# Altium footprint library PcbLib1.PcbLib: 58 footprints (part 2 of 4)
Each footprint in its own frame and in the unit in brackets; x right, y up, seen from the top. Pads: shape width x height; smd on the part's side, far side on the other; paste and mask are expansions set on the pad; w line width, h text height; cw(c..) or ccw(c..) is an arc to the next point about the centre after c.
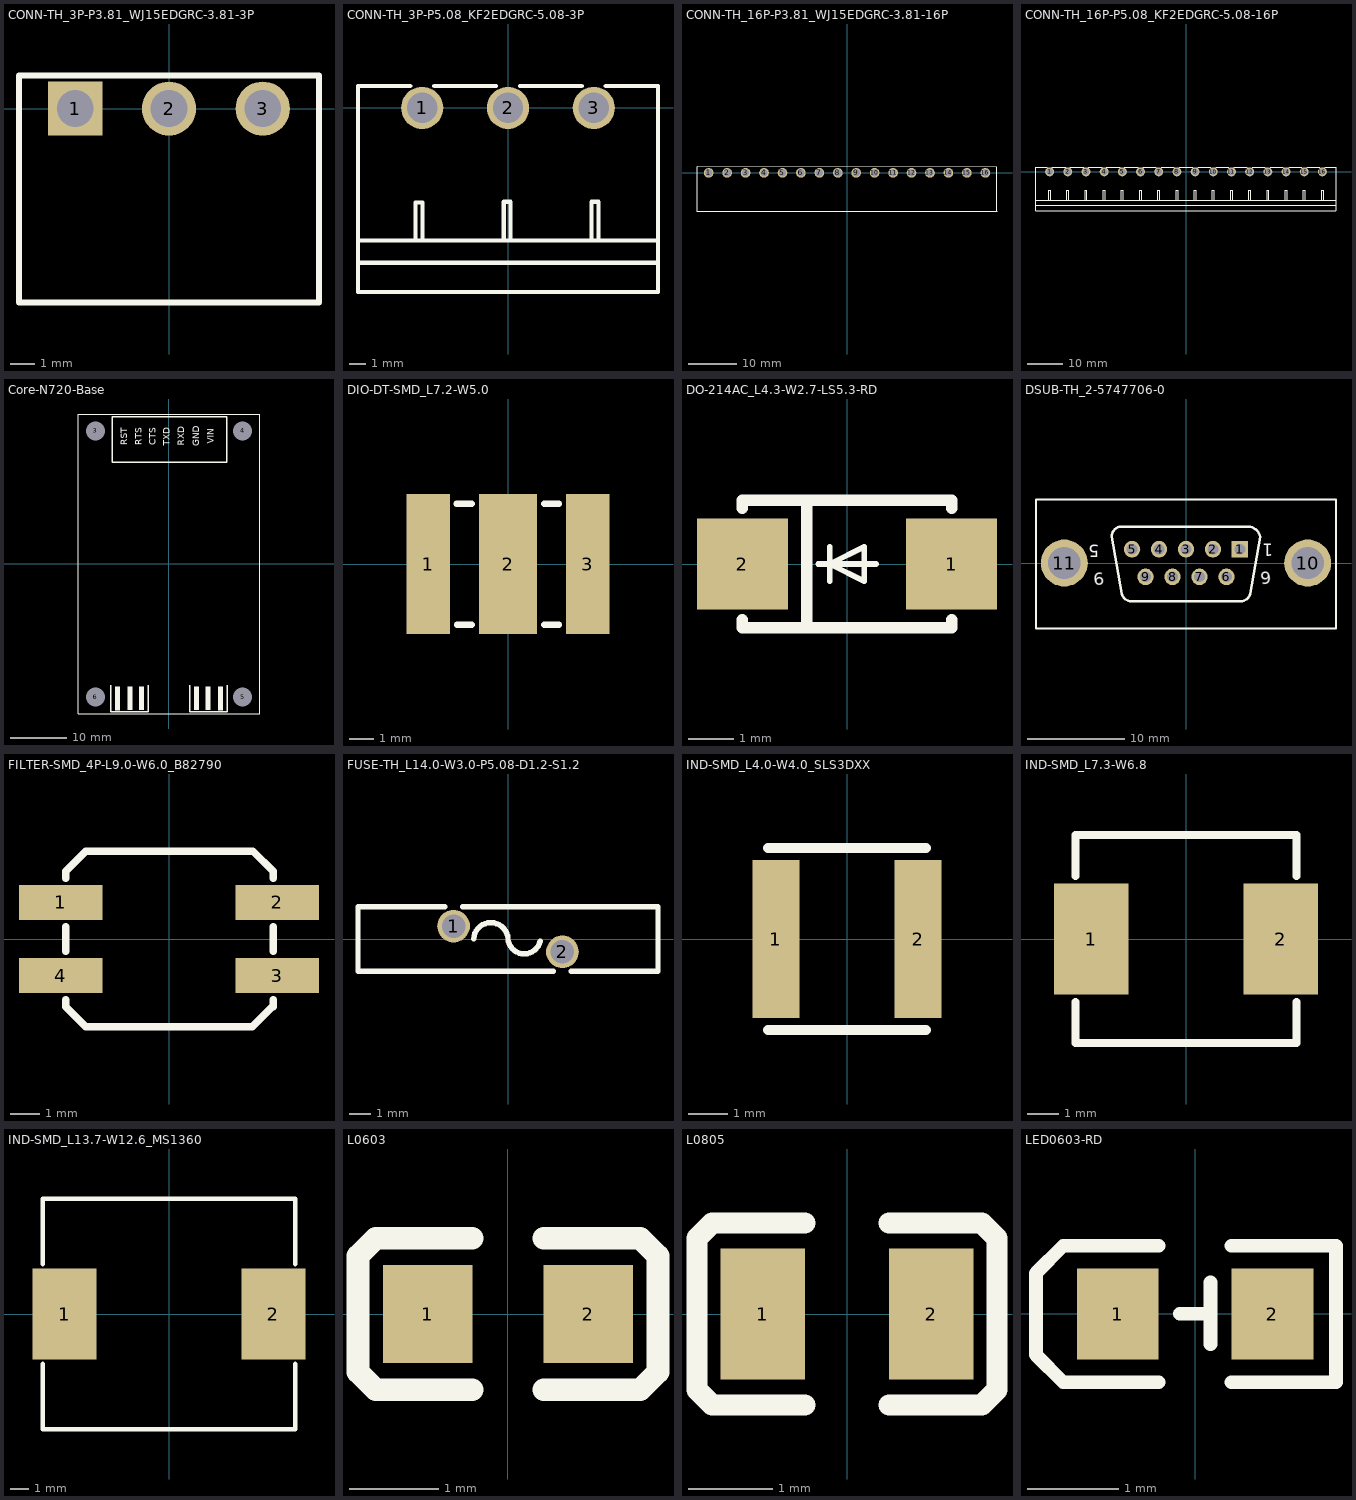
[diagram p1: the footprints below, top view; thin cyan lines are the x and y axes]

## CONN-TH_3P-P3.81_WJ15EDGRC-3.81-3P [mm]
pads (3):
  rect 2.2x2.2 hole 1.5: 1(-3.81,0)
  round 2.2 hole 1.5: 2(0,0) 3(3.81,0)
Top Overlay:
  lines w0.254: -6.096,-7.88 -6.096,1.27 ; -6.096,-7.874 6.096,-7.874 6.096,1.27 ; -6.096,1.35 6.096,1.35

## CONN-TH_3P-P5.08_KF2EDGRC-5.08-3P [mm]
pads (3):
  round 2.5 hole 1.8: 1(-5.08,0) 2(0,0) 3(5.08,0)
Top Overlay:
  lines w0.254: -8.88,-9.17 8.88,-9.17 ; -8.88,-7.85 8.88,-7.85 ; -5.787,1.3 -8.88,1.3 -8.88,-10.9 8.88,-10.9 8.88,1.3 5.787,1.3 ; -5.473,-7.85 -5.473,-5.6 -5.06,-5.6 -5.06,-7.85 ; -4.373,1.3 -0.707,1.3 ; -0.26,-7.8 -0.26,-5.551 0.153,-5.551 0.153,-7.8 ; 0.707,1.3 4.373,1.3 ; 4.94,-7.8 4.94,-5.551 5.353,-5.551 5.353,-7.8

## CONN-TH_16P-P3.81_WJ15EDGRC-3.81-16P [mm]
pads (16):
  round 2 hole 1.5: 1(-28.575,0) 2(-24.765,0) 3(-20.955,0) 4(-17.145,0) 5(-13.335,0) 6(-9.525,0) 7(-5.715,0) 8(-1.905,0) 9(1.905,0) 10(5.715,0) 11(9.525,0) 12(13.335,0) 13(17.145,0) 14(20.955,0) 15(24.765,0) 16(28.575,0)
Top Overlay:
  lines w0.254: -31,-8 -31,1.3 31,1.3 31,-8 -31,-8

## CONN-TH_16P-P5.08_KF2EDGRC-5.08-16P [mm]
pads (16):
  round 2.5 hole 1.8: 1(-38.1,0) 2(-33.02,0) 3(-27.94,0) 4(-22.86,0) 5(-17.78,0) 6(-12.7,0) 7(-7.62,0) 8(-2.54,0) 9(2.54,0) 10(7.62,0) 11(12.7,0) 12(17.78,0) 13(22.86,0) 14(27.94,0) 15(33.02,0) 16(38.1,0)
Top Overlay:
  lines w0.254: -41.9,-9.273 41.9,-9.273 ; -41.9,-8.011 41.9,-8.011 ; -38.695,1.3 -41.9,1.3 -41.9,-10.9 41.9,-10.9 41.9,1.3 38.807,1.3 ; -38.378,-8.011 -38.378,-5.207 -37.846,-5.207 -37.846,-8.011 ; -37.505,1.3 -33.615,1.3 ; -33.274,-8.001 -33.274,-5.197 -32.742,-5.197 -32.742,-8.001 ; -32.425,1.3 -28.535,1.3 ; -28.194,-8.001 -28.194,-5.197 -27.662,-5.197 -27.662,-8.001 ; -27.345,1.3 -23.455,1.3 ; -23.09,-7.991 -23.09,-5.187 -22.558,-5.187 -22.558,-7.991 ; -22.265,1.3 -18.375,1.3 ; -18.034,-8.001 -18.034,-5.197 -17.502,-5.197 -17.502,-8.001 ; -17.185,1.3 -13.295,1.3 ; -12.93,-7.991 -12.93,-5.187 -12.398,-5.187 -12.398,-7.991 ; -12.105,1.3 -8.9,1.3 ; -9.078,1.3 -8.327,1.3 ; -7.85,-7.991 -7.85,-5.187 -7.318,-5.187 -7.318,-7.991 ; -6.913,1.3 -3.247,1.3 ; -2.746,-7.981 -2.746,-5.177 -2.215,-5.177 -2.215,-7.981 ; -1.833,1.3 1.833,1.3 ; 2.286,-8.001 2.286,-5.197 2.818,-5.197 2.818,-8.001 ; 3.247,1.3 6.913,1.3 ; 7.39,-7.991 7.39,-5.187 7.922,-5.187 7.922,-7.991 ; 8.327,1.3 11.993,1.3 ; 12.47,-7.991 12.47,-5.187 13.002,-5.187 13.002,-7.991 ; 13.407,1.3 17.073,1.3 ; 17.574,-7.981 17.574,-5.177 18.105,-5.177 18.105,-7.981 ; 18.487,1.3 22.153,1.3 ; 22.63,-7.991 22.63,-5.187 23.162,-5.187 23.162,-7.991 ; 23.567,1.3 27.233,1.3 ; 27.734,-7.981 27.734,-5.177 28.265,-5.177 28.265,-7.981 ; 28.647,1.3 32.313,1.3 ; 32.814,-7.981 32.814,-5.177 33.345,-5.177 33.345,-7.981 ; 33.727,1.3 37.393,1.3 ; 37.917,-7.971 37.917,-5.167 38.449,-5.167 38.449,-7.971

## Core-N720-Base [mm]
pads (4):
  round 1.524 hole 3.4: 3(-13,23.5) 4(13,23.5) 5(13,-23.5) 6(-13,-23.5)
Top Overlay:
  region: 5.332,-21.626 4.443,-21.626 4.443,-25.817 5.332,-25.817
  region: 7.364,-21.626 6.475,-21.626 6.475,-25.817 7.364,-25.817
  region: 9.523,-21.674 8.634,-21.674 8.634,-25.865 9.523,-25.865
  rectangle: -5.332,-25.817 -4.443,-21.626
  rectangle: -7.364,-25.817 -6.475,-21.626
  rectangle: -9.523,-25.865 -8.634,-21.674
  lines w0.203: -16,-26.5 -16,26.5 16,26.5 16,-26.5 -16,-26.5
  lines w0.254: -10.285,-21.42 -10.285,-26.119 -3.681,-26.119 -3.681,-21.42 ; 3.681,-21.42 3.681,-26.119 10.285,-26.119 10.285,-21.42 ; -10.033,17.991 10.16,17.991 10.16,25.992 -10.033,25.992 -10.033,17.991
  text "RST" at -6.955,20.985 h2
  text "RTS" at -4.415,20.979 h2
  text "CTS" at -1.875,20.956 h2
  text "TXD" at 0.562,20.935 h2
  text "RXD" at 3.102,20.88 h2
  text "GND" at 5.745,20.758 h2
  text "VIN" at 8.309,21.239 h2

## DIO-DT-SMD_L7.2-W5.0 [mm]
pads (3):
  rect 1.8x5.8 smd: 1(-3.3,0) 3(3.3,0)
  rect 2.4x5.8 smd: 2(0,0)
Top Overlay:
  lines w0.254: -2.13,2.49 -1.5,2.49 ; -2.115,-2.51 -1.5,-2.51 ; 1.5,-2.51 2.105,-2.51 ; 1.5,2.49 2.115,2.49
Mechanical 15:
  lines w0.254: -3.6,-2.51 -3.6,2.49 ; 3.6,-2.51 3.6,2.49

## DO-214AC_L4.3-W2.7-LS5.3-RD [mm]
pads (2):
  rect 2x2 smd: 1(2.3,0) 2(-2.3,0)
Top Overlay:
  lines w0.127: -0.635,0 0.635,0 ; -0.381,-0.381 -0.381,0 ; -0.381,0.381 -0.381,0 ; -0.381,0 0.381,-0.381 0.381,0 0.381,0.381 -0.381,0
  lines w0.254: -2.3,-1.231 -2.3,-1.4 2.3,-1.4 2.3,-1.231 ; -2.3,1.231 -2.3,1.4 2.3,1.4 2.3,1.231 ; -0.889,-1.4 -0.889,1.4

## DSUB-TH_2-5747706-0 [mm]
pads (11):
  rect 1.69x1.69 hole 1.09: 1(5.54,1.42)
  round 1.69 hole 1.09: 2(2.77,1.42) 3(0,1.42) 4(-2.77,1.42) 5(-5.54,1.42) 6(4.155,-1.42) 7(1.385,-1.42) 8(-1.385,-1.42) 9(-4.155,-1.42)
  round 4.826 hole 3.302: 10(12.495,0) 11(-12.495,0)
Top Overlay:
  lines w0.2: -15.4,-6.703 15.4,-6.703 15.4,2.9 15.4,6.505 -15.4,6.505 -15.4,-6.703
  lines w0.254: -7.622,2.695 cw(c-6.603,2.724) -6.86,3.711 6.602,3.711 cw(c6.365,2.459) 7.618,2.695 6.602,-3.147 cw(c5.615,-2.889) 5.586,-3.909 -5.59,-3.909 cw(c-5.62,-2.889) -6.606,-3.147 -7.623,2.695
  text "1" at 8.941,1.956 h1.27
  text "6" at 8.705,-0.855 h1.27
  text "9" at -8.439,-0.921 h1.27
  text "5" at -8.892,1.875 h1.27

## FILTER-SMD_4P-L9.0-W6.0_B82790 [mm]
pads (4):
  rect 2.85x1.2 smd: 1(-3.7,1.25) 2(3.7,1.25) 3(3.7,-1.25) 4(-3.7,-1.25)
Top Overlay:
  lines w0.254: -3.531,-2.081 -3.531,-2.311 -2.845,-2.997 ; -3.531,-0.419 -3.531,0.419 ; -3.531,2.081 -3.531,2.312 -2.845,2.997 ; -2.819,-2.997 2.845,-2.997 3.531,-2.311 ; -2.819,3 2.87,3 ; 2.87,2.997 3.556,2.312 3.556,2.081 ; 3.556,-2.311 3.556,-2.081 ; 3.556,-0.419 3.556,0.419

## FUSE-TH_L14.0-W3.0-P5.08-D1.2-S1.2 [mil]
pads (2):
  round 60 hole 43.31: 1(-100,23.63) 2(100,-23.62)
Top Overlay:
  lines w10: -116.39,59.05 -275.59,59.05 -275.59,-59.05 83.61,-59.05 ; -83.61,59.05 275.59,59.05 275.59,-59.05 116.39,-59.05 ; -62.99,0 cw(c-31.48,-1.47) 0,0.51 ccw(c29.85,2.55) 59.05,-3.94

## IND-SMD_L4.0-W4.0_SLS3DXX [mm]
pads (2):
  rect 1.2x4 smd: 1(-1.8,0) 2(1.8,0)
Top Overlay:
  lines w0.254: -2,-2.3 2,-2.3 ; -2,2.3 2,2.3

## IND-SMD_L7.3-W6.8 [mm]
pads (2):
  rect 2.35x3.5 smd: 1(-3,0) 2(3,0)
Top Overlay:
  lines w0.254: -3.5,-2 -3.5,-3.3 3.5,-3.3 3.5,-2 ; -3.5,2 -3.5,3.3 3.5,3.3 3.5,2

## IND-SMD_L13.7-W12.6_MS1360 [mm]
pads (2):
  rect 3.5x5 smd: 1(-5.7,0) 2(5.7,0)
Top Overlay:
  lines w0.254: -6.9,-2.731 -6.9,-6.3 6.9,-6.3 6.9,-2.731 ; -6.9,2.731 -6.9,6.3 6.9,6.3 6.9,2.731

## L0603 [mm]
pads (2):
  rect 1x1.1 smd: 1(-0.9,0) 2(0.9,0)
Top Overlay:
  lines w0.254: -0.4,-0.85 -1.48,-0.85 -1.68,-0.65 -1.68,-0.62 -1.68,0.62 -1.68,0.65 -1.48,0.85 -0.4,0.85 ; 0.4,-0.85 1.48,-0.85 1.68,-0.65 1.68,-0.62 1.68,0.62 1.68,0.65 1.48,0.85 0.4,0.85

## L0805 [mm]
pads (2):
  rect 1x1.55 smd: 1(-1,0) 2(1,0)
Top Overlay:
  lines w0.254: -0.5,-1.08 -1.55,-1.08 -1.6,-1.08 -1.78,-0.9 -1.78,0.9 -1.6,1.08 -1.55,1.08 -0.5,1.08 ; 0.5,-1.08 1.55,-1.08 1.6,-1.08 1.78,-0.9 1.78,0.9 1.6,1.08 1.55,1.08 0.5,1.08

## LED0603-RD [mm]
pads (2):
  rect 0.9x1 smd: 1(-0.85,0) 2(0.85,0)
Top Overlay:
  lines w0.15: -0.4,-0.75 -1.45,-0.75 -1.75,-0.45 -1.75,-0.35 -1.75,0.35 -1.75,0.45 -1.45,0.75 -0.4,0.75 ; -0.17,0.002 0.17,0.002 ; 0.17,-0.33 0.17,0.35 ; 0.4,-0.75 1.55,-0.75 ; 0.4,0.75 1.55,0.75 ; 1.55,-0.73 1.55,0.75